# Altium footprint library 7segMultiplex.PcbLib: 1 footprints
Each footprint in its own frame and in the unit in brackets; x right, y up, seen from the top. Pads: shape width x height; smd on the part's side, far side on the other; paste and mask are expansions set on the pad; w line width, h text height; cw(c..) or ccw(c..) is an arc to the next point about the centre after c.
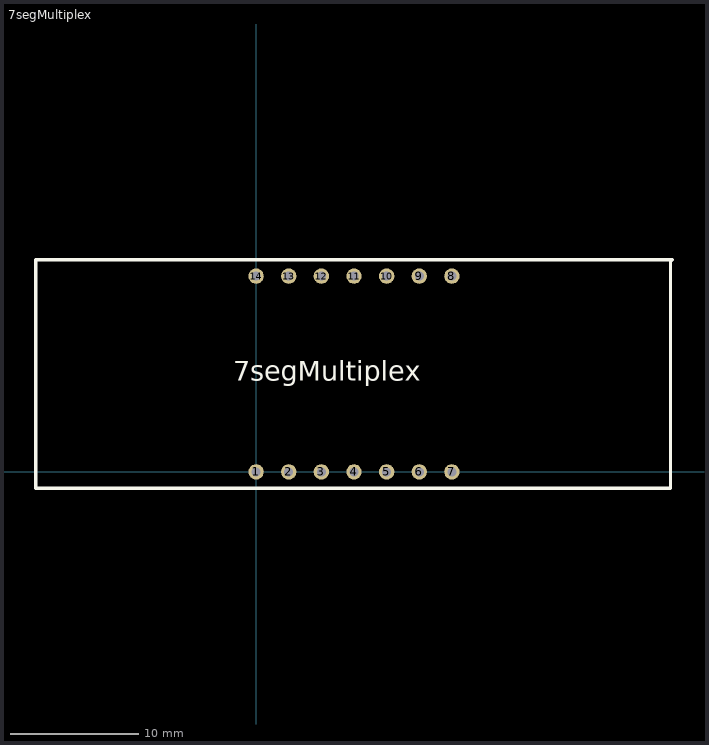
[diagram p0: the footprint, top view; thin cyan lines are the x and y axes]

## 7segMultiplex [mm]
pads (14):
  round 1.2 hole 0.7: 1(0,0) 2(2.54,0) 3(5.08,0) 4(7.62,0) 5(10.16,0) 6(12.7,0) 7(15.24,0) 8(15.24,15.24) 9(12.7,15.24) 10(10.16,15.24) 11(7.62,15.24) 12(5.08,15.24) 13(2.54,15.24) 14(0,15.24)
Top Overlay:
  lines w0.254: 7.493,-1.27 32.258,-1.27 32.258,16.383 32.385,16.51 -17.145,16.51 -17.145,-1.27 7.62,-1.27
  text "7segMultiplex" at -1.778,7.112 h1.52